# Altium footprint library PCB - LEADED - LQFP - ANALOG DEVICES TQFP_EP-100 SV-100-1.PcbLib: 1 footprints
Each footprint in its own frame and in the unit in brackets; x right, y up, seen from the top. Pads: shape width x height; smd on the part's side, far side on the other; paste and mask are expansions set on the pad; w line width, h text height; cw(c..) or ccw(c..) is an arc to the next point about the centre after c.
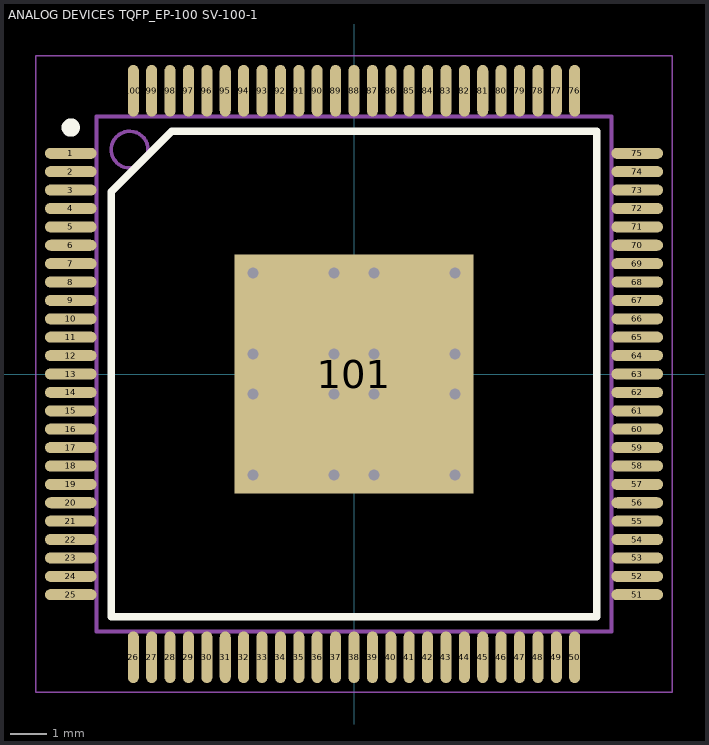
[diagram p0: the footprint, top view; thin cyan lines are the x and y axes]

## ANALOG DEVICES TQFP_EP-100 SV-100-1 [mm] "TQFP_EP, 100-Leads, Body 14.00x14.00mm, Pitch 0.50mm, Thermal Pad 6.50x6.50mm, IPC Medium Density"
height 1.2
pads (101):
  oval 1.4x0.3 smd: 1(-7.7,6) 2(-7.7,5.5) 3(-7.7,5) 4(-7.7,4.5) 5(-7.7,4) 6(-7.7,3.5) 7(-7.7,3) 8(-7.7,2.5) 9(-7.7,2) 10(-7.7,1.5) 11(-7.7,1) 12(-7.7,0.5) 13(-7.7,0) 14(-7.7,-0.5) 15(-7.7,-1) 16(-7.7,-1.5) 17(-7.7,-2) 18(-7.7,-2.5) 19(-7.7,-3) 20(-7.7,-3.5) 21(-7.7,-4) 22(-7.7,-4.5) 23(-7.7,-5) 24(-7.7,-5.5) 25(-7.7,-6) 51(7.7,-6) 52(7.7,-5.5) 53(7.7,-5) 54(7.7,-4.5) 55(7.7,-4) 56(7.7,-3.5) 57(7.7,-3) 58(7.7,-2.5) 59(7.7,-2) 60(7.7,-1.5) 61(7.7,-1) 62(7.7,-0.5) 63(7.7,0) 64(7.7,0.5) 65(7.7,1) 66(7.7,1.5) 67(7.7,2) 68(7.7,2.5) 69(7.7,3) 70(7.7,3.5) 71(7.7,4) 72(7.7,4.5) 73(7.7,5) 74(7.7,5.5) 75(7.7,6)
  oval 0.3x1.4 smd: 26(-6,-7.7) 27(-5.5,-7.7) 28(-5,-7.7) 29(-4.5,-7.7) 30(-4,-7.7) 31(-3.5,-7.7) 32(-3,-7.7) 33(-2.5,-7.7) 34(-2,-7.7) 35(-1.5,-7.7) 36(-1,-7.7) 37(-0.5,-7.7) 38(0,-7.7) 39(0.5,-7.7) 40(1,-7.7) 41(1.5,-7.7) 42(2,-7.7) 43(2.5,-7.7) 44(3,-7.7) 45(3.5,-7.7) 46(4,-7.7) 47(4.5,-7.7) 48(5,-7.7) 49(5.5,-7.7) 50(6,-7.7) 76(6,7.7) 77(5.5,7.7) 78(5,7.7) 79(4.5,7.7) 80(4,7.7) 81(3.5,7.7) 82(3,7.7) 83(2.5,7.7) 84(2,7.7) 85(1.5,7.7) 86(1,7.7) 87(0.5,7.7) 88(0,7.7) 89(-0.5,7.7) 90(-1,7.7) 91(-1.5,7.7) 92(-2,7.7) 93(-2.5,7.7) 94(-3,7.7) 95(-3.5,7.7) 96(-4,7.7) 97(-4.5,7.7) 98(-5,7.7) 99(-5.5,7.7) 100(-6,7.7)
  rect 6.5x6.5 smd paste-2539.97 mask+0.102: 101(0,0)
via 2.75,-2.75 diameter 0.6 hole 0.3
via 0.55,-2.75 diameter 0.6 hole 0.3
via -0.55,-2.75 diameter 0.6 hole 0.3
via -2.75,-2.75 diameter 0.6 hole 0.3
via 2.75,-0.55 diameter 0.6 hole 0.3
via 0.55,-0.55 diameter 0.6 hole 0.3
via -0.55,-0.55 diameter 0.6 hole 0.3
via -2.75,-0.55 diameter 0.6 hole 0.3
via 2.75,0.55 diameter 0.6 hole 0.3
via 0.55,0.55 diameter 0.6 hole 0.3
via -0.55,0.55 diameter 0.6 hole 0.3
via -2.75,0.55 diameter 0.6 hole 0.3
via 2.75,2.75 diameter 0.6 hole 0.3
via 0.55,2.75 diameter 0.6 hole 0.3
via -0.55,2.75 diameter 0.6 hole 0.3
via -2.75,2.75 diameter 0.6 hole 0.3
Top Overlay:
  circle w0.25: c-7.7,6.7 r0.125
  lines w0.2: -6.6,-6.6 -6.6,4.957 -4.957,6.6 6.6,6.6 6.6,-6.6 -6.6,-6.6
Top Paste:
  region: 2.4,0.4 0.9,0.4 0.9,-0.4 2.4,-0.4
  rectangle: -2.4,-3.2 -0.9,-2.7
  region: 3.1,-0.8 0.7,-0.8 0.7,-2.4 3.1,-2.4
  rectangle: -0.2,-3.2 0.2,-0.8
  rectangle: -0.2,-0.4 0.2,0.4
  rectangle: -2.4,-0.4 -0.9,0.4
  region: 2.4,-2.7 0.9,-2.7 0.9,-3.2 2.4,-3.2
  rectangle: -3.1,0.8 -0.7,2.4
  rectangle: -0.2,0.8 0.2,3.2
  region: 2.4,3.2 0.9,3.2 0.9,2.7 2.4,2.7
  region: 3.1,2.4 0.7,2.4 0.7,0.8 3.1,0.8
  rectangle: -2.4,2.7 -0.9,3.2
  rectangle: -3.1,-2.4 -0.7,-0.8
Top Solder:
  drawing of 3 lines, arcs and shapes, not listed
Mechanical 13:
  circle w0.1: c-6.1,6.1 r0.5
  lines w0.1: -7,-7 7,-7 7,7 -7,7 -7,-7
Mechanical 15:
  lines w0.05: -8.65,-8.65 8.65,-8.65 8.65,8.65 -8.65,8.65 -8.65,-8.65
  lines w0.1: -0.5,0 0.5,0 ; 0,-0.5 0,0.5
3D body "ANALOG DEVICES TQFP_EP-100 SV-100-1.step": height 1.2, standoff 0, extent -8,-8 8,8